# Altium footprint library USB转CAN.PcbLib: 14 footprints
Each footprint in its own frame and in the unit in brackets; x right, y up, seen from the top. Pads: shape width x height; smd on the part's side, far side on the other; paste and mask are expansions set on the pad; w line width, h text height; cw(c..) or ccw(c..) is an arc to the next point about the centre after c.
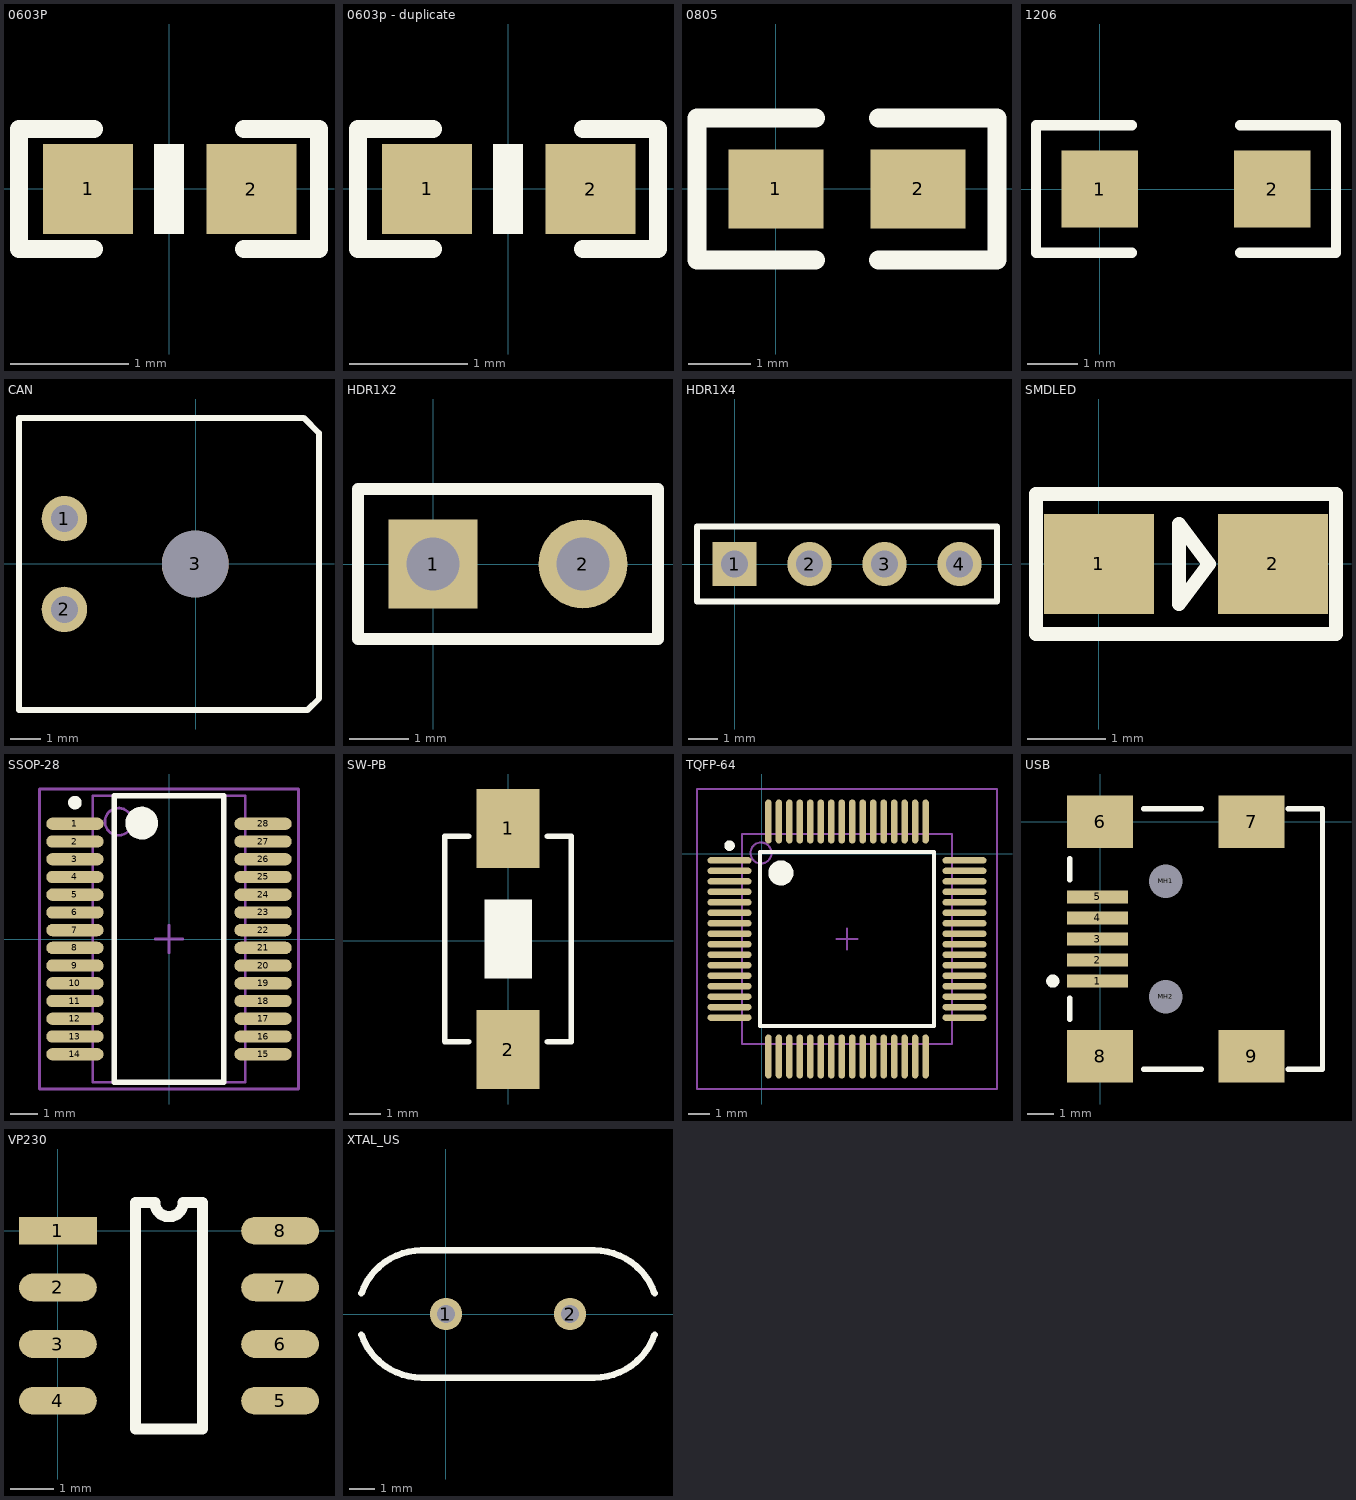
[diagram p0: the footprints below, top view; thin cyan lines are the x and y axes]

## 0603P [mil]
pads (2):
  rect 30x30 smd: 1(-27,0) 2(27.5,-0.06)
Top Overlay:
  region: 5,-15.06 5,14.94 -5,14.94 -5,-15.06
  lines w6: -25,-20.06 -50,-20.06 -50,19.94 -25,19.94 ; 25,-20.06 50,-20.06 50,19.94 25,19.94

## 0603p - duplicate [mil]
pads (2):
  rect 30x30 smd: 1(-27,0) 2(27.5,-0.06)
Top Overlay:
  region: 5,-15.06 5,14.94 -5,14.94 -5,-15.06
  lines w6: -25,-20.06 -50,-20.06 -50,19.94 -25,19.94 ; 25,-20.06 50,-20.06 50,19.94 25,19.94

## 0805 [mil]
pads (2):
  rect 60x50 smd: 1(0,-0.06) 2(90,-0.06)
Top Overlay:
  lines w12: 25,-45.06 -50,-45.06 -50,44.94 25,44.94 ; 65,-45.06 140,-45.06 140,44.94 65,44.94

## 1206 [mil]
pads (2):
  rect 60x60 smd: 1(0,0) 2(135,0)
Top Overlay:
  lines w8: 25,-50 -50,-50 -50,50 25,50 ; 110,-50 185,-50 185,50 110,50

## CAN [mm]
pads (3):
  round 1.5 hole 0.9: 1(-4.342,1.5) 2(-4.342,-1.5)
  round 2.2 hole 2.2: 3(-0.022,0)
Top Overlay:
  lines w0.2: -5.842,-4.826 3.683,-4.826 4.064,-4.445 4.064,4.318 3.556,4.826 -5.842,4.826 -5.842,-4.826

## HDR1X2 [mm] "Connector; Header; 2 Position"
pads (2):
  rect 1.5x1.5 hole 0.9: 1(0,0)
  round 1.5 hole 0.9: 2(2.54,0)
Top Overlay:
  lines w0.2: -1.27,-1.27 -1.27,1.27 3.81,1.27 3.81,-1.27 -1.27,-1.27

## HDR1X4 [mm] "Connector; Header; 4 Position"
pads (4):
  rect 1.5x1.5 hole 0.9: 1(0,0)
  round 1.5 hole 0.9: 2(2.54,0) 3(5.08,0) 4(7.62,0)
Top Overlay:
  lines w0.2: -1.27,-1.27 -1.27,1.27 8.89,1.27 8.89,-1.27 -1.27,-1.27

## SMDLED [mm]
pads (2):
  rect 1.4x1.27 smd: 1(0.001,-0.002) 2(2.211,-0.002)
Top Overlay:
  lines w0.178: 3.012,0.887 3.011,0.887 ; 3.011,0.887 3.011,-0.891 -0.799,-0.891 -0.799,-0.002 -0.799,0.887 3.011,0.887 ; 1.017,-0.51 1.017,0.506 1.398,-0.002 1.017,-0.51

## SSOP-28 [mm] "FT232"
height 2
pads (28):
  oval 2.1x0.45 smd: 1(-3.45,4.225) 2(-3.45,3.575) 3(-3.45,2.925) 4(-3.45,2.275) 5(-3.45,1.625) 6(-3.45,0.975) 7(-3.45,0.325) 8(-3.45,-0.325) 9(-3.45,-0.975) 10(-3.45,-1.625) 11(-3.45,-2.275) 12(-3.45,-2.925) 13(-3.45,-3.575) 14(-3.45,-4.225) 15(3.45,-4.225) 16(3.45,-3.575) 17(3.45,-2.925) 18(3.45,-2.275) 19(3.45,-1.625) 20(3.45,-0.975) 21(3.45,-0.325) 22(3.45,0.325) 23(3.45,0.975) 24(3.45,1.625) 25(3.45,2.275) 26(3.45,2.925) 27(3.45,3.575) 28(3.45,4.225)
Top Overlay:
  circle w0.25: c-3.45,5 r0.125
  circle w0.6: c-1,4.25 r0.3
  lines w0.2: -2,-5.25 -2,5.25 2,5.25 2,-5.25 -2,-5.25
Mechanical 13:
  circle w0.1: c-1.85,4.3 r0.5
  lines w0.1: -2.8,-5.25 -2.8,5.25 2.8,5.25 2.8,-5.25 -2.8,-5.25
Mechanical 15:
  lines w0.1: -0.5,0 0.5,0 ; 0,-0.5 0,0.5 ; -4.75,-5.5 -4.75,5.5 4.75,5.5 4.75,-5.5 -4.75,-5.5
3D body: height 2, standoff 0.09, extent -2.8,-5.25 2.8,5.25

## SW-PB [mm]
pads (2):
  rect 2x2.5 smd: 1(0,3.556) 2(0,-3.444)
Top Overlay:
  region: -0.747,1.309 -0.747,-1.191 0.753,-1.191 0.753,1.309
  lines w0.178: -1.25,-3.194 -2,-3.19 -2,3.306 -1.25,3.306 ; 1.25,-3.194 2,-3.194 2,3.306 1.25,3.306
3D body: height 1.2, standoff 0.8, extent -0.762,-1.143 0.762,1.27
3D body: height 0.8, standoff 0, extent -2.032,-3.175 2.032,3.302

## TQFP-64 [mm]
pads (64):
  oval 2.1x0.3 smd: 1(-1.536,-0.314) 2(-1.536,-0.814) 3(-1.536,-1.314) 4(-1.536,-1.814) 5(-1.536,-2.314) 6(-1.536,-2.814) 7(-1.536,-3.314) 8(-1.536,-3.814) 9(-1.536,-4.314) 10(-1.536,-4.814) 11(-1.536,-5.314) 12(-1.536,-5.814) 13(-1.536,-6.314) 14(-1.536,-6.814) 15(-1.536,-7.314) 16(-1.536,-7.814) 33(9.664,-7.814) 34(9.664,-7.314) 35(9.664,-6.814) 36(9.664,-6.314) 37(9.664,-5.814) 38(9.664,-5.314) 39(9.664,-4.814) 40(9.664,-4.314) 41(9.664,-3.814) 42(9.664,-3.314) 43(9.664,-2.814) 44(9.664,-2.314) 45(9.664,-1.814) 46(9.664,-1.314) 47(9.664,-0.814) 48(9.664,-0.314)
  oval 0.3x2.1 smd: 17(0.314,-9.664) 18(0.814,-9.664) 19(1.314,-9.664) 20(1.814,-9.664) 21(2.314,-9.664) 22(2.814,-9.664) 23(3.314,-9.664) 24(3.814,-9.664) 25(4.314,-9.664) 26(4.814,-9.664) 27(5.314,-9.664) 28(5.814,-9.664) 29(6.314,-9.664) 30(6.814,-9.664) 31(7.314,-9.664) 32(7.814,-9.664) 49(7.814,1.536) 50(7.314,1.536) 51(6.814,1.536) 52(6.314,1.536) 53(5.814,1.536) 54(5.314,1.536) 55(4.814,1.536) 56(4.314,1.536) 57(3.814,1.536) 58(3.314,1.536) 59(2.814,1.536) 60(2.314,1.536) 61(1.814,1.536) 62(1.314,1.536) 63(0.814,1.536) 64(0.314,1.536)
Top Overlay:
  circle w0.6: c0.914,-0.914 r0.3
  circle w0.25: c-1.536,0.386 r0.125
  lines w0.2: -0.086,-8.214 8.214,-8.214 8.214,0.086 -0.086,0.086 -0.086,-8.214
Mechanical 13:
  circle w0.1: c-0.036,0.036 r0.5
  lines w0.1: -0.936,-9.064 9.064,-9.064 9.064,0.936 -0.936,0.936 -0.936,-9.064
Mechanical 15:
  lines w0.1: 3.564,-4.064 4.564,-4.064 ; 4.064,-4.564 4.064,-3.564 ; -3.086,-11.214 11.214,-11.214 11.214,3.086 -3.086,3.086 -3.086,-11.214
3D body: height 1.2, standoff 0, extent -0.936,-9.064 9.064,0.936

## USB [mm]
pads (11):
  rect 2.3x0.5 smd: 1(-0.1,-6.05) 2(-0.1,-5.25) 3(-0.1,-4.45) 4(-0.1,-3.65) 5(-0.1,-2.85)
  rect 2.5x2 smd: 6(0,0) 7(5.754,0) 8(0,-8.9) 9(5.754,-8.9)
  round 0.6 hole 1.27 unplated: MH1(2.5,-2.25) MH2(2.5,-6.65)
Top Overlay:
  circle w0.25: c-1.8,-6.05 r0.125
  lines w0.2: -1.15,-7.5 -1.15,-6.7 ; -1.15,-2.2 -1.15,-1.4 ; 1.65,-9.4 3.85,-9.4 ; 1.65,0.5 3.85,0.5 ; 7.15,-9.4 8.45,-9.4 8.45,0.5 7.15,0.5

## VP230 [mil]
pads (8):
  rect 70x25 smd: 1(0,0)
  oval 70x25 smd: 2(0,-51) 3(0,-102) 4(0,-153) 5(200,-153) 6(200,-102) 7(200,-51) 8(200,0)
Top Overlay:
  lines w10: 70,-178.5 70,25.5 87.25,25.5 ccw(c100,25.5) 112.75,25.5 130,25.5 130,-178.5 70,-178.5

## XTAL_US [mil]
pads (2):
  round 50 hole 28: 1(0,0) 2(192.13,0)
Top Overlay:
  lines w10: -130.92,-31.85 ccw(c-37.79,0) -37.79,-98.42 ; -130.92,31.85 cw(c-37.79,0) -37.79,98.43 ; -38,98.42 229.92,98.43 cw(c229.92,0) 323.05,31.85 ; -37.8,-98.43 229.92,-98.42 ccw(c229.92,0) 323.05,-31.85